# Altium footprint library Dual-In-Line Package.PcbLib: 124 footprints (part 7 of 8)
Each footprint in its own frame and in the unit in brackets; x right, y up, seen from the top. Pads: shape width x height; smd on the part's side, far side on the other; paste and mask are expansions set on the pad; w line width, h text height; cw(c..) or ccw(c..) is an arc to the next point about the centre after c.
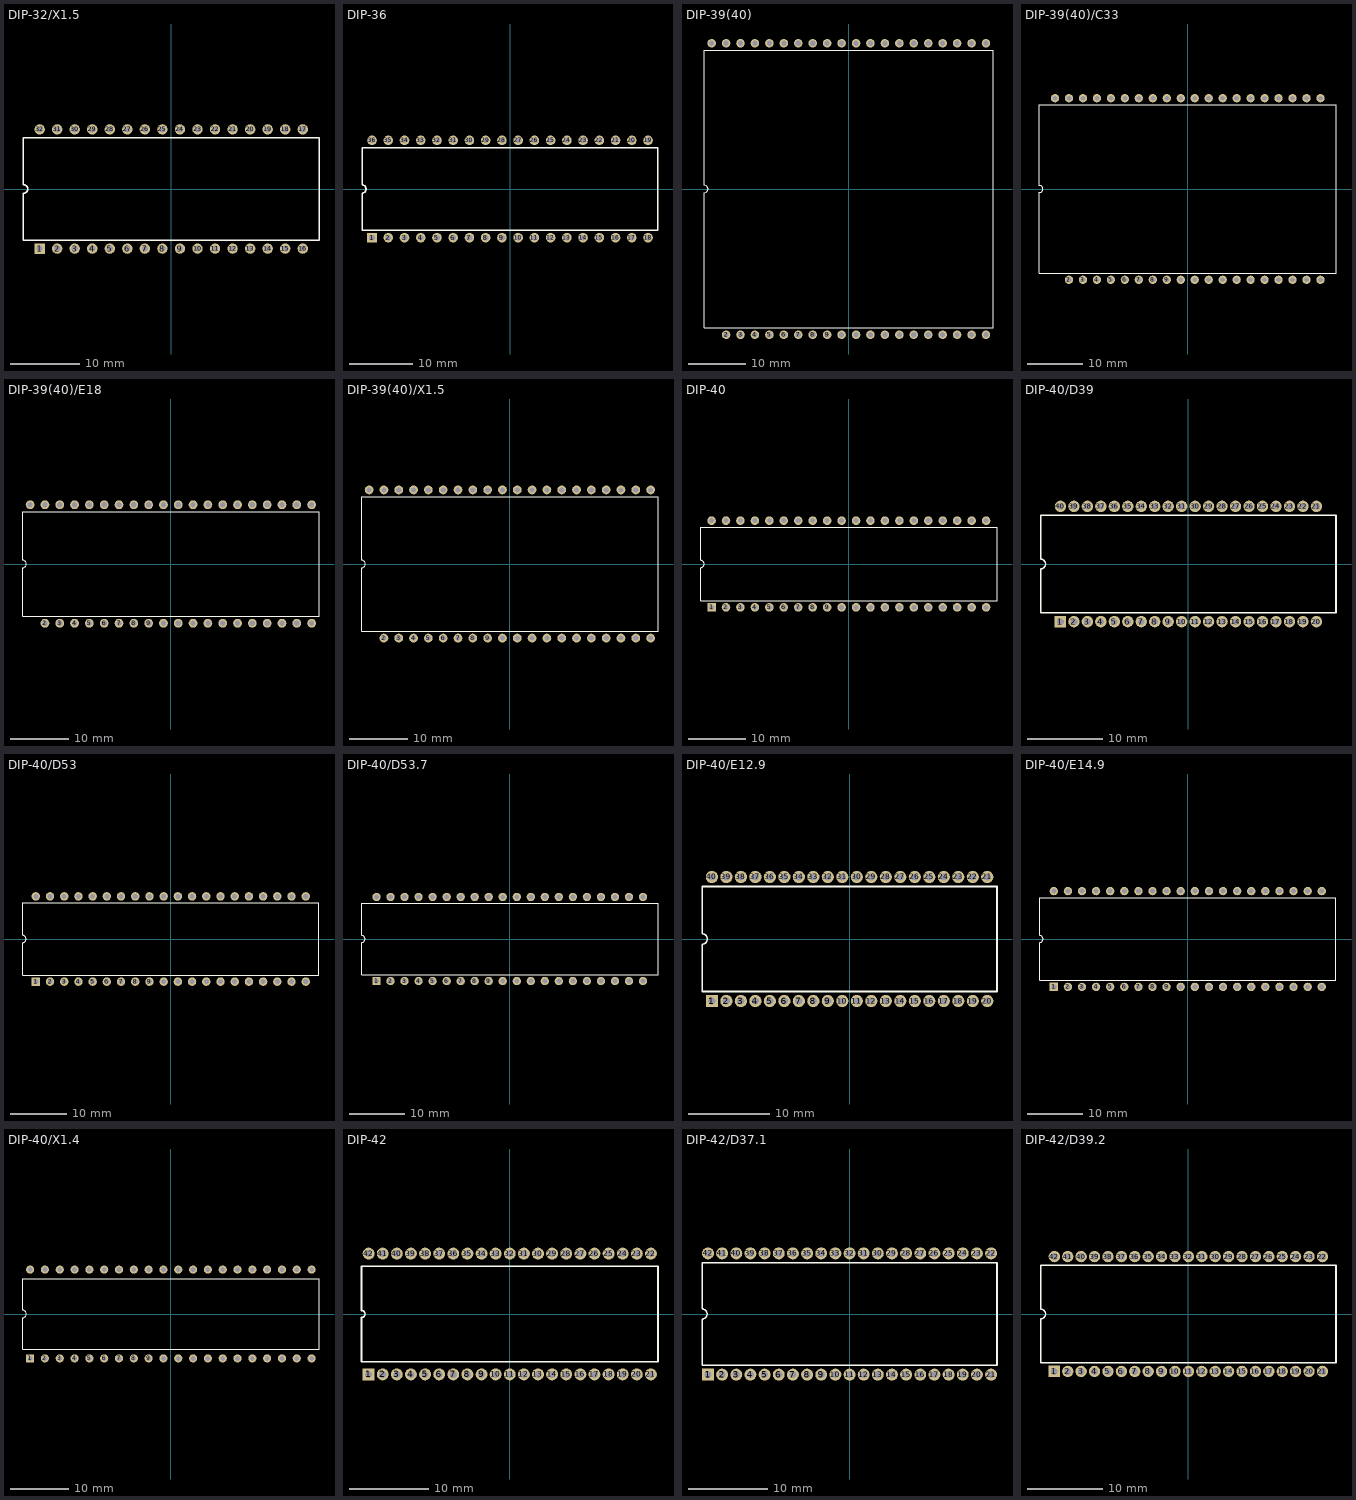
[diagram p6: the footprints below, top view; thin cyan lines are the x and y axes]

## DIP-32/X1.5 [mm]
pads (32):
  rect 1.5x1.5 hole 0.9: 1(-19.05,-8.625)
  round 1.5 hole 0.9: 2(-16.51,-8.625) 3(-13.97,-8.625) 4(-11.43,-8.625) 5(-8.89,-8.625) 6(-6.35,-8.625) 7(-3.81,-8.625) 8(-1.27,-8.625) 9(1.27,-8.625) 10(3.81,-8.625) 11(6.35,-8.625) 12(8.89,-8.625) 13(11.43,-8.625) 14(13.97,-8.625) 15(16.51,-8.625) 16(19.05,-8.625) 17(19.05,8.625) 18(16.51,8.625) 19(13.97,8.625) 20(11.43,8.625) 21(8.89,8.625) 22(6.35,8.625) 23(3.81,8.625) 24(1.27,8.625) 25(-1.27,8.625) 26(-3.81,8.625) 27(-6.35,8.625) 28(-8.89,8.625) 29(-11.43,8.625) 30(-13.97,8.625) 31(-16.51,8.625) 32(-19.05,8.625)
Top Overlay:
  lines w0.2: -21.4,-7.45 21.4,-7.45 21.4,7.45 -21.4,7.45 -21.4,0.635 cw(c-21.4,0) -21.4,-0.635 -21.4,-7.45

## DIP-36 [mm]
pads (36):
  rect 1.5x1.5 hole 0.9: 1(-21.59,-7.62)
  round 1.5 hole 0.9: 2(-19.05,-7.62) 3(-16.51,-7.62) 4(-13.97,-7.62) 5(-11.43,-7.62) 6(-8.89,-7.62) 7(-6.35,-7.62) 8(-3.81,-7.62) 9(-1.27,-7.62) 10(1.27,-7.62) 11(3.81,-7.62) 12(6.35,-7.62) 13(8.89,-7.62) 14(11.43,-7.62) 15(13.97,-7.62) 16(16.51,-7.62) 17(19.05,-7.62) 18(21.59,-7.62) 19(21.59,7.62) 20(19.05,7.62) 21(16.51,7.62) 22(13.97,7.62) 23(11.43,7.62) 24(8.89,7.62) 25(6.35,7.62) 26(3.81,7.62) 27(1.27,7.62) 28(-1.27,7.62) 29(-3.81,7.62) 30(-6.35,7.62) 31(-8.89,7.62) 32(-11.43,7.62) 33(-13.97,7.62) 34(-16.51,7.62) 35(-19.05,7.62) 36(-21.59,7.62)
Top Overlay:
  lines w0.2: -23.15,-6.45 -23.15,-0.635 ccw(c-23.15,0) -23.15,0.635 -23.15,6.45 23.15,6.45 23.15,-6.45 -23.15,-6.45

## DIP-39(40) [mm]
pads (39):
  round 1.5 hole 0.9: 2(-21.59,-25.635) 3(-19.05,-25.635) 4(-16.51,-25.635) 5(-13.97,-25.635) 6(-11.43,-25.635) 7(-8.89,-25.635) 8(-6.35,-25.635) 9(-3.81,-25.635) 10(-1.27,-25.635) 11(1.27,-25.635) 12(3.81,-25.635) 13(6.35,-25.635) 14(8.89,-25.635) 15(11.43,-25.635) 16(13.97,-25.635) 17(16.51,-25.635) 18(19.05,-25.635) 19(21.59,-25.635) 20(24.13,-25.635) 21(24.13,25.635) 22(21.59,25.635) 23(19.05,25.635) 24(16.51,25.635) 25(13.97,25.635) 26(11.43,25.635) 27(8.89,25.635) 28(6.35,25.635) 29(3.81,25.635) 30(1.27,25.635) 31(-1.27,25.635) 32(-3.81,25.635) 33(-6.35,25.635) 34(-8.89,25.635) 35(-11.43,25.635) 36(-13.97,25.635) 37(-16.51,25.635) 38(-19.05,25.635) 39(-21.59,25.635) 40(-24.13,25.635)
Top Overlay:
  lines w0.2: -25.4,-24.45 25.4,-24.45 25.4,24.45 -25.4,24.45 -25.4,0.635 cw(c-25.4,0) -25.4,-0.635 -25.4,-24.45

## DIP-39(40)/C33 [mm]
pads (39):
  round 1.5 hole 0.9: 2(-21.59,-16.5) 3(-19.05,-16.5) 4(-16.51,-16.5) 5(-13.97,-16.5) 6(-11.43,-16.5) 7(-8.89,-16.5) 8(-6.35,-16.5) 9(-3.81,-16.5) 10(-1.27,-16.5) 11(1.27,-16.5) 12(3.81,-16.5) 13(6.35,-16.5) 14(8.89,-16.5) 15(11.43,-16.5) 16(13.97,-16.5) 17(16.51,-16.5) 18(19.05,-16.5) 19(21.59,-16.5) 20(24.13,-16.5) 21(24.13,16.5) 22(21.59,16.5) 23(19.05,16.5) 24(16.51,16.5) 25(13.97,16.5) 26(11.43,16.5) 27(8.89,16.5) 28(6.35,16.5) 29(3.81,16.5) 30(1.27,16.5) 31(-1.27,16.5) 32(-3.81,16.5) 33(-6.35,16.5) 34(-8.89,16.5) 35(-11.43,16.5) 36(-13.97,16.5) 37(-16.51,16.5) 38(-19.05,16.5) 39(-21.59,16.5) 40(-24.13,16.5)
Top Overlay:
  lines w0.2: -26.95,-15.35 26.95,-15.35 26.95,15.35 -26.95,15.35 -26.95,0.635 cw(c-26.95,0) -26.95,-0.635 -26.95,-15.35

## DIP-39(40)/E18 [mm]
pads (39):
  round 1.5 hole 0.9: 2(-21.59,-10.16) 3(-19.05,-10.16) 4(-16.51,-10.16) 5(-13.97,-10.16) 6(-11.43,-10.16) 7(-8.89,-10.16) 8(-6.35,-10.16) 9(-3.81,-10.16) 10(-1.27,-10.16) 11(1.27,-10.16) 12(3.81,-10.16) 13(6.35,-10.16) 14(8.89,-10.16) 15(11.43,-10.16) 16(13.97,-10.16) 17(16.51,-10.16) 18(19.05,-10.16) 19(21.59,-10.16) 20(24.13,-10.16) 21(24.13,10.16) 22(21.59,10.16) 23(19.05,10.16) 24(16.51,10.16) 25(13.97,10.16) 26(11.43,10.16) 27(8.89,10.16) 28(6.35,10.16) 29(3.81,10.16) 30(1.27,10.16) 31(-1.27,10.16) 32(-3.81,10.16) 33(-6.35,10.16) 34(-8.89,10.16) 35(-11.43,10.16) 36(-13.97,10.16) 37(-16.51,10.16) 38(-19.05,10.16) 39(-21.59,10.16) 40(-24.13,10.16)
Top Overlay:
  lines w0.2: -25.4,-9 -25.4,-0.635 ccw(c-25.4,0) -25.4,0.635 -25.4,9 25.4,9 25.4,-9 -25.4,-9

## DIP-39(40)/X1.5 [mm]
pads (39):
  round 1.5 hole 0.9: 2(-21.59,-12.7) 3(-19.05,-12.7) 4(-16.51,-12.7) 5(-13.97,-12.7) 6(-11.43,-12.7) 7(-8.89,-12.7) 8(-6.35,-12.7) 9(-3.81,-12.7) 10(-1.27,-12.7) 11(1.27,-12.7) 12(3.81,-12.7) 13(6.35,-12.7) 14(8.89,-12.7) 15(11.43,-12.7) 16(13.97,-12.7) 17(16.51,-12.7) 18(19.05,-12.7) 19(21.59,-12.7) 20(24.13,-12.7) 21(24.13,12.7) 22(21.59,12.7) 23(19.05,12.7) 24(16.51,12.7) 25(13.97,12.7) 26(11.43,12.7) 27(8.89,12.7) 28(6.35,12.7) 29(3.81,12.7) 30(1.27,12.7) 31(-1.27,12.7) 32(-3.81,12.7) 33(-6.35,12.7) 34(-8.89,12.7) 35(-11.43,12.7) 36(-13.97,12.7) 37(-16.51,12.7) 38(-19.05,12.7) 39(-21.59,12.7) 40(-24.13,12.7)
Top Overlay:
  lines w0.2: -25.4,-11.55 -25.4,-0.635 ccw(c-25.4,0) -25.4,0.635 -25.4,11.55 25.4,11.55 25.4,-11.55 -25.4,-11.55

## DIP-40 [mm]
pads (40):
  rect 1.5x1.5 hole 0.9: 1(-24.13,-7.62)
  round 1.5 hole 0.9: 2(-21.59,-7.62) 3(-19.05,-7.62) 4(-16.51,-7.62) 5(-13.97,-7.62) 6(-11.43,-7.62) 7(-8.89,-7.62) 8(-6.35,-7.62) 9(-3.81,-7.62) 10(-1.27,-7.62) 11(1.27,-7.62) 12(3.81,-7.62) 13(6.35,-7.62) 14(8.89,-7.62) 15(11.43,-7.62) 16(13.97,-7.62) 17(16.51,-7.62) 18(19.05,-7.62) 19(21.59,-7.62) 20(24.13,-7.62) 21(24.13,7.62) 22(21.59,7.62) 23(19.05,7.62) 24(16.51,7.62) 25(13.97,7.62) 26(11.43,7.62) 27(8.89,7.62) 28(6.35,7.62) 29(3.81,7.62) 30(1.27,7.62) 31(-1.27,7.62) 32(-3.81,7.62) 33(-6.35,7.62) 34(-8.89,7.62) 35(-11.43,7.62) 36(-13.97,7.62) 37(-16.51,7.62) 38(-19.05,7.62) 39(-21.59,7.62) 40(-24.13,7.62)
Top Overlay:
  lines w0.2: -26.05,-6.45 -26.05,-0.635 ccw(c-26.05,0) -26.05,0.635 -26.05,6.45 26.05,6.45 26.05,-6.45 -26.05,-6.45

## DIP-40/D39 [mm]
pads (40):
  rect 1.5x1.5 hole 0.9: 1(-16.91,-7.62)
  round 1.5 hole 0.9: 2(-15.13,-7.62) 3(-13.35,-7.62) 4(-11.57,-7.62) 5(-9.79,-7.62) 6(-8.01,-7.62) 7(-6.23,-7.62) 8(-4.45,-7.62) 9(-2.67,-7.62) 10(-0.89,-7.62) 11(0.89,-7.62) 12(2.67,-7.62) 13(4.45,-7.62) 14(6.23,-7.62) 15(8.01,-7.62) 16(9.79,-7.62) 17(11.57,-7.62) 18(13.35,-7.62) 19(15.13,-7.62) 20(16.91,-7.62) 21(16.91,7.62) 22(15.13,7.62) 23(13.35,7.62) 24(11.57,7.62) 25(9.79,7.62) 26(8.01,7.62) 27(6.23,7.62) 28(4.45,7.62) 29(2.67,7.62) 30(0.89,7.62) 31(-0.89,7.62) 32(-2.67,7.62) 33(-4.45,7.62) 34(-6.23,7.62) 35(-8.01,7.62) 36(-9.79,7.62) 37(-11.57,7.62) 38(-13.35,7.62) 39(-15.13,7.62) 40(-16.91,7.62)
Top Overlay:
  lines w0.2: -19.5,-6.45 19.5,-6.45 19.5,6.45 -19.5,6.45 -19.5,0.635 cw(c-19.5,0) -19.5,-0.635 -19.5,-6.45

## DIP-40/D53 [mm]
pads (40):
  rect 1.5x1.5 hole 0.9: 1(-24.13,-7.62)
  round 1.5 hole 0.9: 2(-21.59,-7.62) 3(-19.05,-7.62) 4(-16.51,-7.62) 5(-13.97,-7.62) 6(-11.43,-7.62) 7(-8.89,-7.62) 8(-6.35,-7.62) 9(-3.81,-7.62) 10(-1.27,-7.62) 11(1.27,-7.62) 12(3.81,-7.62) 13(6.35,-7.62) 14(8.89,-7.62) 15(11.43,-7.62) 16(13.97,-7.62) 17(16.51,-7.62) 18(19.05,-7.62) 19(21.59,-7.62) 20(24.13,-7.62) 21(24.13,7.62) 22(21.59,7.62) 23(19.05,7.62) 24(16.51,7.62) 25(13.97,7.62) 26(11.43,7.62) 27(8.89,7.62) 28(6.35,7.62) 29(3.81,7.62) 30(1.27,7.62) 31(-1.27,7.62) 32(-3.81,7.62) 33(-6.35,7.62) 34(-8.89,7.62) 35(-11.43,7.62) 36(-13.97,7.62) 37(-16.51,7.62) 38(-19.05,7.62) 39(-21.59,7.62) 40(-24.13,7.62)
Top Overlay:
  lines w0.2: -26.5,-6.45 -26.5,-0.635 ccw(c-26.5,0) -26.5,0.635 -26.5,6.45 26.5,6.45 26.5,-6.45 -26.5,-6.45

## DIP-40/D53.7 [mm]
pads (40):
  rect 1.5x1.5 hole 0.9: 1(-24.13,-7.62)
  round 1.5 hole 0.9: 2(-21.59,-7.62) 3(-19.05,-7.62) 4(-16.51,-7.62) 5(-13.97,-7.62) 6(-11.43,-7.62) 7(-8.89,-7.62) 8(-6.35,-7.62) 9(-3.81,-7.62) 10(-1.27,-7.62) 11(1.27,-7.62) 12(3.81,-7.62) 13(6.35,-7.62) 14(8.89,-7.62) 15(11.43,-7.62) 16(13.97,-7.62) 17(16.51,-7.62) 18(19.05,-7.62) 19(21.59,-7.62) 20(24.13,-7.62) 21(24.13,7.62) 22(21.59,7.62) 23(19.05,7.62) 24(16.51,7.62) 25(13.97,7.62) 26(11.43,7.62) 27(8.89,7.62) 28(6.35,7.62) 29(3.81,7.62) 30(1.27,7.62) 31(-1.27,7.62) 32(-3.81,7.62) 33(-6.35,7.62) 34(-8.89,7.62) 35(-11.43,7.62) 36(-13.97,7.62) 37(-16.51,7.62) 38(-19.05,7.62) 39(-21.59,7.62) 40(-24.13,7.62)
Top Overlay:
  lines w0.2: -26.85,-6.45 26.85,-6.45 26.85,6.45 -26.85,6.45 -26.85,0.635 cw(c-26.85,0) -26.85,-0.635 -26.85,-6.45

## DIP-40/E12.9 [mm]
pads (40):
  rect 1.5x1.5 hole 0.9: 1(-16.91,-7.62)
  round 1.5 hole 0.9: 2(-15.13,-7.62) 3(-13.35,-7.62) 4(-11.57,-7.62) 5(-9.79,-7.62) 6(-8.01,-7.62) 7(-6.23,-7.62) 8(-4.45,-7.62) 9(-2.67,-7.62) 10(-0.89,-7.62) 11(0.89,-7.62) 12(2.67,-7.62) 13(4.45,-7.62) 14(6.23,-7.62) 15(8.01,-7.62) 16(9.79,-7.62) 17(11.57,-7.62) 18(13.35,-7.62) 19(15.13,-7.62) 20(16.91,-7.62) 21(16.91,7.62) 22(15.13,7.62) 23(13.35,7.62) 24(11.57,7.62) 25(9.79,7.62) 26(8.01,7.62) 27(6.23,7.62) 28(4.45,7.62) 29(2.67,7.62) 30(0.89,7.62) 31(-0.89,7.62) 32(-2.67,7.62) 33(-4.45,7.62) 34(-6.23,7.62) 35(-8.01,7.62) 36(-9.79,7.62) 37(-11.57,7.62) 38(-13.35,7.62) 39(-15.13,7.62) 40(-16.91,7.62)
Top Overlay:
  lines w0.2: -18.1,-6.45 -18.1,-0.635 ccw(c-18.1,0) -18.1,0.635 -18.1,6.45 18.1,6.45 18.1,-6.45 -18.1,-6.45

## DIP-40/E14.9 [mm]
pads (40):
  rect 1.5x1.5 hole 0.9: 1(-24.13,-8.625)
  round 1.5 hole 0.9: 2(-21.59,-8.625) 3(-19.05,-8.625) 4(-16.51,-8.625) 5(-13.97,-8.625) 6(-11.43,-8.625) 7(-8.89,-8.625) 8(-6.35,-8.625) 9(-3.81,-8.625) 10(-1.27,-8.625) 11(1.27,-8.625) 12(3.81,-8.625) 13(6.35,-8.625) 14(8.89,-8.625) 15(11.43,-8.625) 16(13.97,-8.625) 17(16.51,-8.625) 18(19.05,-8.625) 19(21.59,-8.625) 20(24.13,-8.625) 21(24.13,8.625) 22(21.59,8.625) 23(19.05,8.625) 24(16.51,8.625) 25(13.97,8.625) 26(11.43,8.625) 27(8.89,8.625) 28(6.35,8.625) 29(3.81,8.625) 30(1.27,8.625) 31(-1.27,8.625) 32(-3.81,8.625) 33(-6.35,8.625) 34(-8.89,8.625) 35(-11.43,8.625) 36(-13.97,8.625) 37(-16.51,8.625) 38(-19.05,8.625) 39(-21.59,8.625) 40(-24.13,8.625)
Top Overlay:
  lines w0.2: -26.7,-7.45 26.7,-7.45 26.7,7.45 -26.7,7.45 -26.7,0.635 cw(c-26.7,0) -26.7,-0.635 -26.7,-7.45

## DIP-40/X1.4 [mm]
pads (40):
  rect 1.4x1.4 hole 0.8: 1(-24.13,-7.62)
  round 1.4 hole 0.8: 2(-21.59,-7.62) 3(-19.05,-7.62) 4(-16.51,-7.62) 5(-13.97,-7.62) 6(-11.43,-7.62) 7(-8.89,-7.62) 8(-6.35,-7.62) 9(-3.81,-7.62) 10(-1.27,-7.62) 11(1.27,-7.62) 12(3.81,-7.62) 13(6.35,-7.62) 14(8.89,-7.62) 15(11.43,-7.62) 16(13.97,-7.62) 17(16.51,-7.62) 18(19.05,-7.62) 19(21.59,-7.62) 20(24.13,-7.62) 21(24.13,7.62) 22(21.59,7.62) 23(19.05,7.62) 24(16.51,7.62) 25(13.97,7.62) 26(11.43,7.62) 27(8.89,7.62) 28(6.35,7.62) 29(3.81,7.62) 30(1.27,7.62) 31(-1.27,7.62) 32(-3.81,7.62) 33(-6.35,7.62) 34(-8.89,7.62) 35(-11.43,7.62) 36(-13.97,7.62) 37(-16.51,7.62) 38(-19.05,7.62) 39(-21.59,7.62) 40(-24.13,7.62)
Top Overlay:
  lines w0.2: -25.4,-6.085 -25.4,-0.635 ccw(c-25.4,0) -25.4,0.635 -25.4,6.085 25.4,6.085 25.4,-6.085 -25.4,-6.085

## DIP-42 [mm]
pads (42):
  rect 1.5x1.5 hole 0.9: 1(-17.8,-7.62)
  round 1.5 hole 0.9: 2(-16.02,-7.62) 3(-14.24,-7.62) 4(-12.46,-7.62) 5(-10.68,-7.62) 6(-8.9,-7.62) 7(-7.12,-7.62) 8(-5.34,-7.62) 9(-3.56,-7.62) 10(-1.78,-7.62) 11(0,-7.62) 12(1.78,-7.62) 13(3.56,-7.62) 14(5.34,-7.62) 15(7.12,-7.62) 16(8.9,-7.62) 17(10.68,-7.62) 18(12.46,-7.62) 19(14.24,-7.62) 20(16.02,-7.62) 21(17.8,-7.62) 22(17.8,7.62) 23(16.02,7.62) 24(14.24,7.62) 25(12.46,7.62) 26(10.68,7.62) 27(8.9,7.62) 28(7.12,7.62) 29(5.34,7.62) 30(3.56,7.62) 31(1.78,7.62) 32(0,7.62) 33(-1.78,7.62) 34(-3.56,7.62) 35(-5.34,7.62) 36(-7.12,7.62) 37(-8.9,7.62) 38(-10.68,7.62) 39(-12.46,7.62) 40(-14.24,7.62) 41(-16.02,7.62) 42(-17.8,7.62)
Top Overlay:
  lines w0.2: -18.69,-6.035 -18.69,-0.445 ccw(c-18.69,0) -18.69,0.445 -18.69,6.035 18.69,6.035 18.69,-6.035 -18.69,-6.035

## DIP-42/D37.1 [mm]
pads (42):
  rect 1.5x1.5 hole 0.9: 1(-17.8,-7.62)
  round 1.5 hole 0.9: 2(-16.02,-7.62) 3(-14.24,-7.62) 4(-12.46,-7.62) 5(-10.68,-7.62) 6(-8.9,-7.62) 7(-7.12,-7.62) 8(-5.34,-7.62) 9(-3.56,-7.62) 10(-1.78,-7.62) 11(0,-7.62) 12(1.78,-7.62) 13(3.56,-7.62) 14(5.34,-7.62) 15(7.12,-7.62) 16(8.9,-7.62) 17(10.68,-7.62) 18(12.46,-7.62) 19(14.24,-7.62) 20(16.02,-7.62) 21(17.8,-7.62) 22(17.8,7.62) 23(16.02,7.62) 24(14.24,7.62) 25(12.46,7.62) 26(10.68,7.62) 27(8.9,7.62) 28(7.12,7.62) 29(5.34,7.62) 30(3.56,7.62) 31(1.78,7.62) 32(0,7.62) 33(-1.78,7.62) 34(-3.56,7.62) 35(-5.34,7.62) 36(-7.12,7.62) 37(-8.9,7.62) 38(-10.68,7.62) 39(-12.46,7.62) 40(-14.24,7.62) 41(-16.02,7.62) 42(-17.8,7.62)
Top Overlay:
  lines w0.2: -18.55,-6.45 -18.55,-0.635 ccw(c-18.55,0) -18.55,0.635 -18.55,6.45 18.55,6.45 18.55,-6.45 -18.55,-6.45

## DIP-42/D39.2 [mm]
pads (42):
  rect 1.5x1.5 hole 0.9: 1(-17.8,-7.62)
  round 1.5 hole 0.9: 2(-16.02,-7.62) 3(-14.24,-7.62) 4(-12.46,-7.62) 5(-10.68,-7.62) 6(-8.9,-7.62) 7(-7.12,-7.62) 8(-5.34,-7.62) 9(-3.56,-7.62) 10(-1.78,-7.62) 11(0,-7.62) 12(1.78,-7.62) 13(3.56,-7.62) 14(5.34,-7.62) 15(7.12,-7.62) 16(8.9,-7.62) 17(10.68,-7.62) 18(12.46,-7.62) 19(14.24,-7.62) 20(16.02,-7.62) 21(17.8,-7.62) 22(17.8,7.62) 23(16.02,7.62) 24(14.24,7.62) 25(12.46,7.62) 26(10.68,7.62) 27(8.9,7.62) 28(7.12,7.62) 29(5.34,7.62) 30(3.56,7.62) 31(1.78,7.62) 32(0,7.62) 33(-1.78,7.62) 34(-3.56,7.62) 35(-5.34,7.62) 36(-7.12,7.62) 37(-8.9,7.62) 38(-10.68,7.62) 39(-12.46,7.62) 40(-14.24,7.62) 41(-16.02,7.62) 42(-17.8,7.62)
Top Overlay:
  lines w0.2: -19.6,-6.45 19.6,-6.45 19.6,6.45 -19.6,6.45 -19.6,0.635 cw(c-19.6,0) -19.6,-0.635 -19.6,-6.45